# Altium schematic symbol library Connectors.SchLib: 84 symbols (part 1 of 3)
Pins are listed as number, name and electrical type; pins without a type are passive.

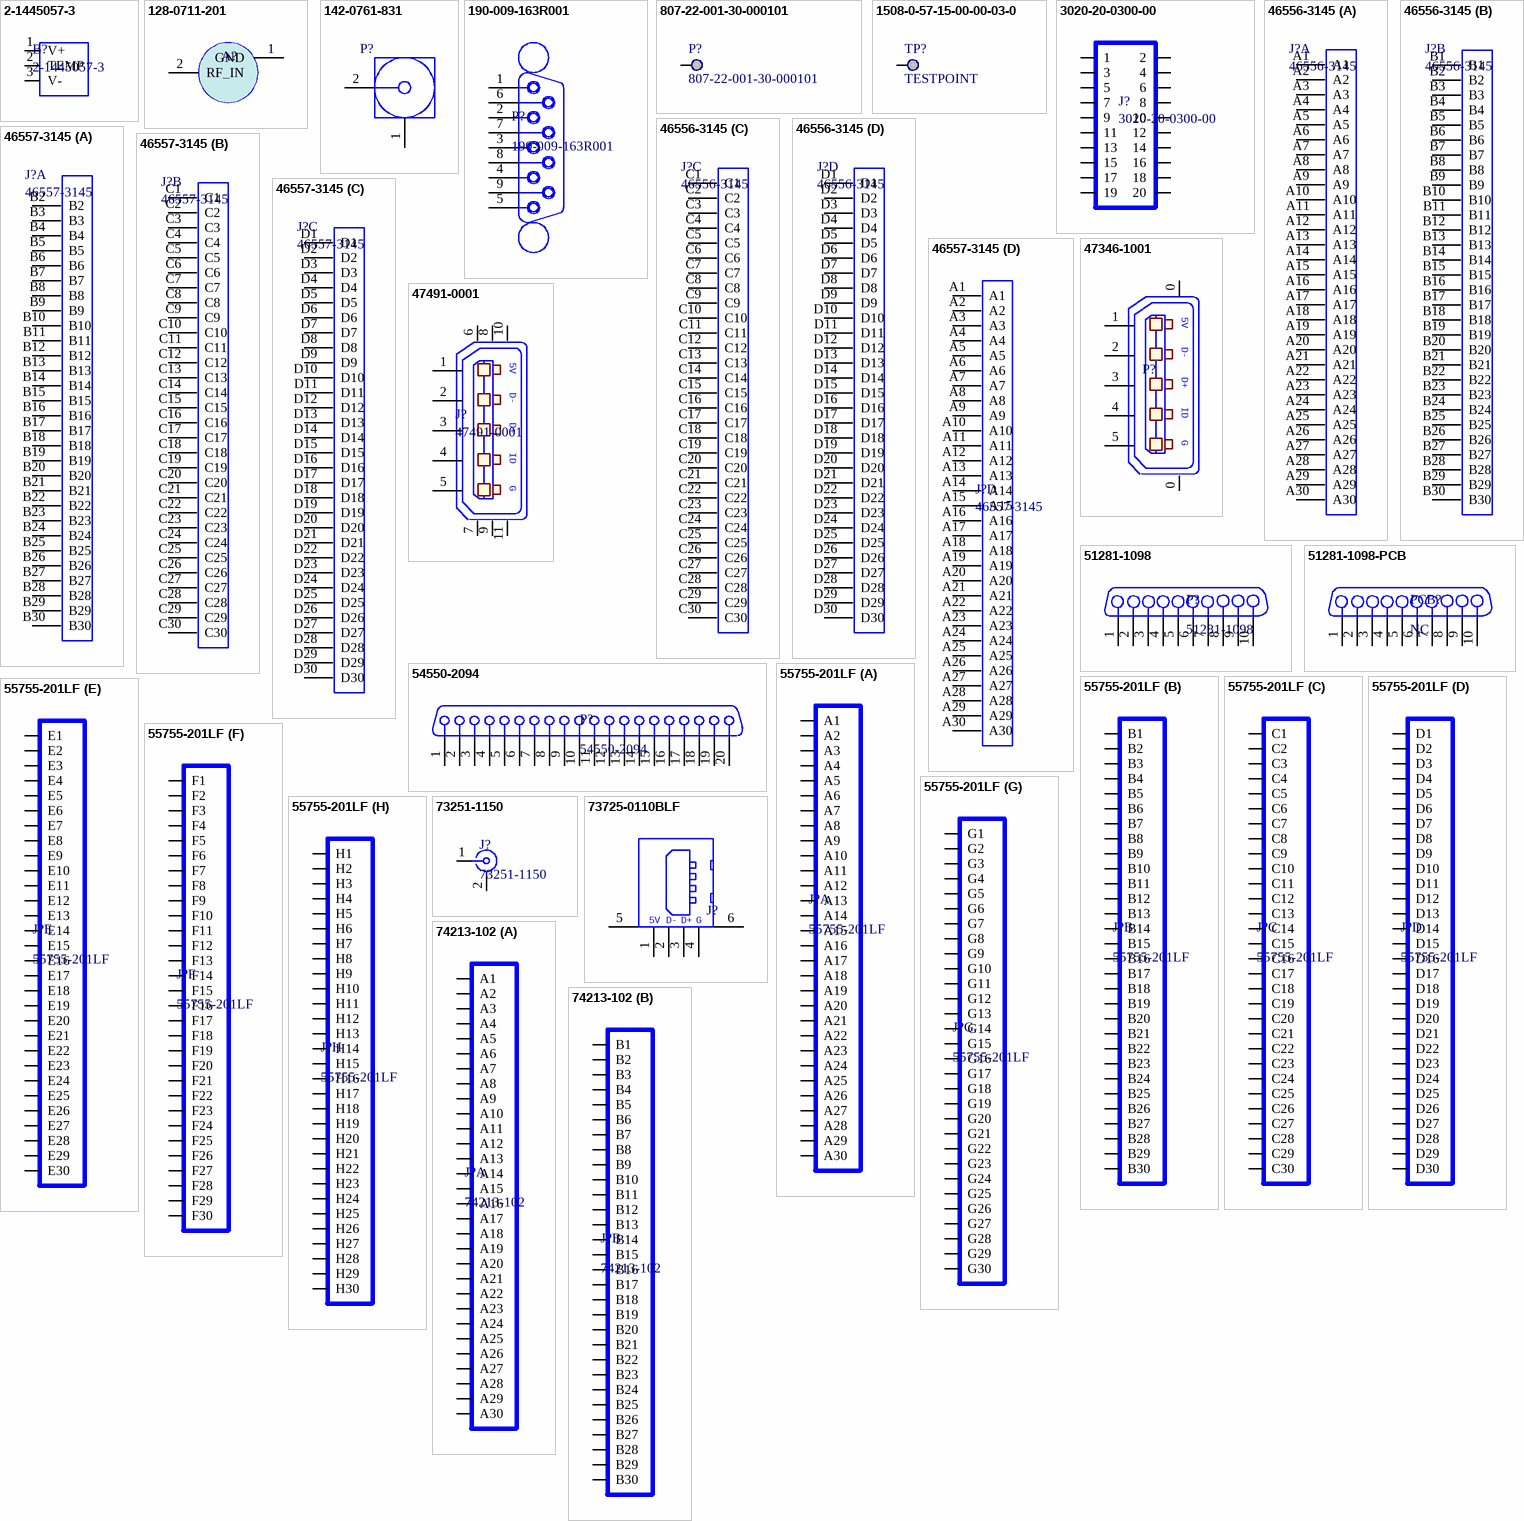
[diagram p0: symbols 2-1445057-3 to 74213-102]

## 2-1445057-3
designator B?
CONN HEADER 3MM 3POS R/A TIN SMD; Manufacturer: TE Connectivity AMP Connectors; Connector Type: Header, Shrouded; Number of Positions: 3; Number of Positions Loaded: All; Pitch: 0.118" (3.00mm); Supplier 1: Digi-Key; Manufacturer Part Number: 2-1445057-3; RoHS: RoHS Compliant; Category: Connectors, Interconnects; Stock 1: 2508; Pricing 1: 1=0.93, 10=0.741, 100=0.5276 (GBP); Packaging: Digi-Reel®; Part Status: Active; Contact Type: Male Pin; Number of Rows: 1; Row Spacing: -; Contact Mating Length: -; Mounting Type: Surface Mount, Right Angle; Termination: Solder; Fastening Type: Locking Ramp; Features: -; Contact Finish: Tin; Contact Finish Thickness: 100µin (2.54µm); Color: Black; ComponentLink1URL: http://www.te.com/commerce/DocumentDelivery/DDEController?Action=srchrtrv&DocNm=1445057&DocType=Customer+Drawing&DocLang=English; ComponentLink1Description: http://www.te.com/commerce/DocumentDelivery/DDEController?Action=srchrtrv&DocNm=1445057&DocType=Customer+Drawing&DocLang=English; Supplier Part Number 1: A33213DKR-ND
footprint 2-1445057-3 (3 Positions Header, Shrouded Connector 0.118" (3.00mm) Surface Mount, Right Angle Tin)
pins: 1 V+, 2 TEMP, 3 V-

## 128-0711-201
designator A?  (value not drawn)
CONN UMC RCPT STR 50 OHM SMD; Manufacturer: Emerson Network Power Connectivity Johnson; Temini: Kayra Elektronik; Connector Style: Ultra Miniature Coaxial; Connector Type: Receptacle, Male Pins; Contact Termination: Solder; Impedance: 50 Ohm; RoHS Status: RoHS Compliant; ComponentDescriptionLink: http://media.digikey.com/pdf/Data%20Sheets/Emerson%20PDFs/UMC%20Product%20Catalog.pdf; Category: Connectors, Interconnects; Family: Coaxial Connectors (RF); Shield Termination: Solder; Mounting Type: Surface Mount; Operating Temperature: -40°C ~ 90°C; Supplier 1: Digi-Key; Supplier Part Number 1: J983DKR-ND
footprint 128-0711-201 (IPEX MHF receptacle)
pins: 1 GND, 2 RF_IN

## 142-0761-831
designator P?  (value not drawn)
CONN JACK SMA 50 OHMS PC MOUNT; Manufacturer 1: Emerson Network Power Connectivity Solutions; Connector Type: Jack, Female Sockets; Contact Termination: Solder; Impedance: 50 Ohm; Frequency-Max: 26.5GHz; Supplier 1: Digi-Key; Supplier Part Number 1: J804-ND; RoHS: RoHS Compliant; Category: Connectors, Interconnects; Stock 1: 1034; Pricing 1: 1=8.45, 10=7.524, 50=6.142, 100=5.5278, 250=5.06716, 500=4.2994, 750=4.08443, 1000=3.83875, 2500=3.6852 (USD); Connector Style: SMA; Mounting Type: Board Edge; Fastening Type: Threaded; Cable Group: -; Features: -; Color: -; Packaging: Bulk; ComponentLink1URL: https://emersonconnectivity.com/OA_MEDIA/drawings/dr-142-0761-831.pdf; ComponentLink1Description: https://emersonconnectivity.com/OA_MEDIA/drawings/dr-142-0761-831.pdf; Manufacturer Part Number 1: 142-0761-831
footprint 142-0761-831 (Emerson Network Power Connectivity Solutions, CONN JACK SMA 50 OHMS PC MOUNT)
pins: 1 GND (power), 2 Signal "Signal Pin"

## 190-009-163R001
designator P?
CONN DSUB PLUG 9POS SMD R/A SLDR; Manufacturer: Norcomp Inc.; Connector Style: D-Sub; Connector Type: Plug, Male Pins; Number of Positions: 9; Flange Feature: Housing/Shell (4-40); Voltage Rating: 300V; Current Rating: 5A; Supplier 1: Digi-Key; Supplier Part Number 1: 190-09MA-ND; Manufacturer Part Number: 190-009-163R001; RoHS: RoHS Compliant; Category: Connectors, Interconnects; Stock 1: 8640; Pricing 1: 1=2.45, 10=2.352, 100=1.9596, 500=1.66566, 1000=1.42071, 5000=1.27374 (EUR); Packaging: Tube; Part Status: Active; Number of Rows: 2; Shell Size, Connector Layout: 1 (DE, E); Contact Type: Signal; Mounting Type: Board Edge, Surface Mount, Right Angle; Termination: Solder; Features: Board Guide, Board Lock, Grounding Indents, Shielded; Shell Material, Finish: Steel, Nickel Plated; Contact Finish: Gold; Contact Finish Thickness: Flash; Ingress Protection: -; Operating Temperature: -55°C ~ 105°C; Housing Material: Polyamide (PA6T), Nylon 6T; Color: Black; ComponentLink1URL: http://www.norcomp.net/rohspdfs/Connectors/19Y/190/190-009-163R001.pdf; ComponentLink1Description: http://www.norcomp.net/rohspdfs/Connectors/19Y/190/190-009-163R001.pdf
footprint 190-009-163R001 (9 Position D-Sub Plug, Male Pins Connector, Board Edge, Surface Mount, Right Angle Solder)
pins: 1, 2, 3, 4, 5, 6, 7, 8, 9

## 807-22-001-30-000101
designator P?
Circuit Board Hardware - PCB SMT INSL Spring Pins 2.54mm Height; Manufacturer: Mill-Max; Current Rating: 2A; Plating: Gold; Supplier: DigiKey; Supplier Part Number: ED1339-ND; Manufacturer Part Number: 807-22-001-30-000101; RoHS: Compliant; Category: Coaxial / RF Cable Assemblies; Stock: 929; Pricing: 1=1.08, 10=0.916, 25=0.858, 50=0.817, 100=0.778, 250=0.72924, 500=0.69438, 1000=0.66123, 2500=0.61984 (USD); Length: 2.54mm; Lifecycle Status: Production; Mounting Technology: Surface Mount; REACH SVHC: Yes; ComponentLink1URL: https://datasheet.octopart.com:443/807-22-001-30-000101-Mill-Max-datasheet-180693244.pdf?src-supplier=IHS; ComponentLink1Description: https://datasheet.octopart.com:443/807-22-001-30-000101-Mill-Max-datasheet-180693244.pdf?src-supplier=IHS; ComponentLink2URL: https://datasheet.octopart.com:443/807-22-001-30-000101-Mill-Max-datasheet-113190385.pdf?src-supplier=Upverter; ComponentLink2Description: https://datasheet.octopart.com:443/807-22-001-30-000101-Mill-Max-datasheet-113190385.pdf?src-supplier=Upverter; ComponentLink3URL: https://datasheet.octopart.com:443/807-22-001-30-000101-Mill-Max-datasheet-137329504.pdf?src-supplier=Sager+Electronics; ComponentLink3Description: https://datasheet.octopart.com:443/807-22-001-30-000101-Mill-Max-datasheet-137329504.pdf?src-supplier=Sager+Electronics; Supplier 1: DigiKey; Supplier Part Number 1: ED1339-ND
footprint 807-22-001-30-000101
pins: 1

## 1508-0-57-15-00-00-03-0
designator TP?, comment TESTPOINT
TESTPOINT PIN SMD; Manufacturer: Mill-Max Manufacturing Corp.; Manufacturer Part Number: 1508-0-57-15-00-00-03-0; Supplier 1: Digi-Key; RoHS: RoHS Compliant; Category: Test and Measurement; Stock 1: 32978; Pricing 1: 1=0.94, 10=0.658, 25=0.564, 50=0.5076, 100=0.4426, 250=0.376, 500=0.3572 (GBP); Packaging: Cut Tape (CT); Part Status: Active; Type: PC Test Point; Terminal: 0.018" (0.46mm) Brass, Gold Plated; Mounting Type: Surface Mount; Material: Brass Alloy; Color: -; ComponentLink1URL: http://www.mill-max.com/assets/pdfs/224.pdf; ComponentLink1Description: http://www.mill-max.com/assets/pdfs/224.pdf; Supplier Part Number 1: ED1088CT-ND
ibis Model Name (Model Description)
footprint 1508-0-57-15-00-00-03-0 (Test point, surface mount)
pins: 1

## 3020-20-0300-00
designator J?
IDC BOX HEADER .100" 20POS; Manufacturer: CNC Tech; Connector Type: Header, Shrouded; Number of Positions: 20; Number of Positions Loaded: All; Pitch: 0.100" (2.54mm); Supplier 1: Digi-Key; Manufacturer Part Number: 3020-20-0300-00; RoHS: RoHS Compliant; Category: Connectors, Interconnects; Stock 1: 6113; Pricing 1: 1=0.55, 10=0.516, 50=0.4126, 100=0.3953, 250=0.36096, 500=0.34376, 1000=0.2836, 2500=0.25782, 5000=0.24922 (GBP); Packaging: Tray; Part Status: Active; Contact Type: Male Pin; Number of Rows: 2; Row Spacing: 0.100" (2.54mm); Contact Mating Length: -; Mounting Type: Surface Mount; Termination: Solder; Fastening Type: -; Features: -; Contact Finish: Gold; Contact Finish Thickness: Flash; Color: -; ComponentLink1URL: http://cnctech.us/pdfs/3020-XX-0300-00.pdf; ComponentLink1Description: http://cnctech.us/pdfs/3020-XX-0300-00.pdf; Supplier Part Number 1: 1175-1623-ND
footprint 3020-20-0300-00
pins: 1, 2, 3, 4, 5, 6, 7, 8, 9, 10, 11, 12, 13, 14, 15, 16, 17, 18, 19, 20

## 46556-3145
designator J?
Terminal Array Assembly, Surface Mount, 0.050" Pitch, 120 Pins; Manufacturer: Molex Connector Corporation; Connector Type: High Density Array, Male; Number of Positions: 120; Pitch: 0.050" (1.27mm); Mated Stacking Heights: 7mm, 8mm, 8.5mm, 9.5mm, 10mm; Supplier 1: Digi-Key; Manufacturer Part Number: 46556-3145; RoHS: RoHS Compliant; Category: Connectors, Interconnects; Stock 1: 300; Pricing 1: 300=6.8804, 600=6.4365, 900=6.08138 (GBP); Packaging: Tape & Reel (TR); Part Status: Active; Number of Rows: 4; Mounting Type: Surface Mount; Features: Board Guide; Contact Finish: Gold; Contact Finish Thickness: 30µin (0.76µm); Height Above Board: 0.221" (5.63mm); ComponentLink1URL: http://www.molex.com/pdm_docs/sd/465563145_sd.pdf; ComponentLink1Description: http://www.molex.com/pdm_docs/sd/465563145_sd.pdf; Supplier Part Number 1: WM4977TR-ND
footprint 46556-3145 (SEARAY* Slim Plug, 120 Circuits, 2.00mm Unmated Height, 4 Rows, with Pegs, Solder Charge™ Lead-Free)
part A pins: A1, A2, A3, A4, A5, A6, A7, A8, A9, A10, A11, A12, A13, A14, A15, A16, A17, A18, A19, A20, A21, A22, A23, A24, A25, A26, A27, A28, A29, A30
part B pins: B1, B2, B3, B4, B5, B6, B7, B8, B9, B10, B11, B12, B13, B14, B15, B16, B17, B18, B19, B20, B21, B22, B23, B24, B25, B26, B27, B28, B29, B30
part C pins: C1, C2, C3, C4, C5, C6, C7, C8, C9, C10, C11, C12, C13, C14, C15, C16, C17, C18, C19, C20, C21, C22, C23, C24, C25, C26, C27, C28, C29, C30
part D pins: D1, D2, D3, D4, D5, D6, D7, D8, D9, D10, D11, D12, D13, D14, D15, D16, D17, D18, D19, D20, D21, D22, D23, D24, D25, D26, D27, D28, D29, D30

## 46557-3145
designator J?
Socket Array Assembly, Surface Mount, 0.050" Pitch, 120 pins.; Manufacturer: Molex, LLC; Manufacturer Part Number: 0465573145; Connector Type: High Density Array, Female; Number of Positions: 120; Pitch: 0.050" (1.27mm); Mated Stacking Heights: 7mm, 7.5mm, 8mm, 8.5mm, 9.5mm, 10mm, 12mm; Supplier 1: Digi-Key; RoHS: RoHS Compliant; Category: Connectors, Interconnects; Stock 1: 350; Pricing 1: 350=8.17771, 700=7.65011 (GBP); Packaging: Tape & Reel (TR); Part Status: Active; Number of Rows: 4; Mounting Type: Surface Mount; Features: Board Guide; Contact Finish: Gold; Contact Finish Thickness: 30µin (0.76µm); Height Above Board: 0.199" (5.05mm); ComponentLink1URL: http://www.molex.com/pdm_docs/sd/465573145_sd.pdf; ComponentLink1Description: http://www.molex.com/pdm_docs/sd/465573145_sd.pdf; Supplier Part Number 1: WM4981TR-ND
footprint 46557-3145 (SEARAY* Slim Receptacle, 120 Circuits, 5.00mm Unmated Height, 4 Rows, with Pegs, Solder Charge™ Lead-Free)
part A pins: B2, B3, B4, B5, B6, B7, B8, B9, B10, B11, B12, B13, B14, B15, B16, B17, B18, B19, B20, B21, B22, B23, B24, B25, B26, B27, B28, B29, B30
part B pins: C1, C2, C3, C4, C5, C6, C7, C8, C9, C10, C11, C12, C13, C14, C15, C16, C17, C18, C19, C20, C21, C22, C23, C24, C25, C26, C27, C28, C29, C30
part C pins: D1, D2, D3, D4, D5, D6, D7, D8, D9, D10, D11, D12, D13, D14, D15, D16, D17, D18, D19, D20, D21, D22, D23, D24, D25, D26, D27, D28, D29, D30
part D pins: A1, A2, A3, A4, A5, A6, A7, A8, A9, A10, A11, A12, A13, A14, A15, A16, A17, A18, A19, A20, A21, A22, A23, A24, A25, A26, A27, A28, A29, A30
1 alternate drawing of the same symbol

## 47346-1001
designator P?  (value not drawn)
USB Connectors uUSB B Rec BotMt Flangeless SMT; Manufacturer: Molex; Current Rating: 1.8 A; Gender: Female; Mounting Angle: Right; Number of Contacts: 5 Contact; Voltage Rating: 30 V; Insulator Color: Black; Number of Ports: 1 Port; Supplier 1: Mouser; Manufacturer Part Number: 47346-1001; RoHS: RoHS Compliant; Category: USB Connectors; Stock 1: 11316; Pricing 1: 1=0.688, 10=0.631, 100=0.540, 250=0.489, 500=0.451, 1000=0.389, 2000=0.389 (EUR); Color: Black; Contact Plating: Gold; Features: Micro-USB B Receptacle without Flange, Bottom Mount, Surface Mount, Lead-Free; Operating Temperature Range: - 30 C to + 85 C; Packaging: Reel; Product: Micro USB Type B Connectors; Series: 47346; Termination Style: SMD/SMT; Brand: Molex; Contact Material: Copper Alloy; Flammability Rating: UL 94 V-0; Shell Plating: Stainless Steel; Standard Pack Qty: 2000; RoHS - Mouser: Y; Minimum Order Quantity: 1; Reeling: True; ComponentLink1URL: http://www.mouser.com/ds/2/276/0473461001_IO_CONNECTORS-272892.pdf; ComponentLink1Description: http://www.mouser.com/ds/2/276/0473461001_IO_CONNECTORS-272892.pdf; Supplier Part Number 1: 538-47346-1001
footprint 47346-1001 (Micro-USB B Receptacle without Flange, Bottom Mount, Surface Mount, Lead-Free)
pins: 0, 0, 1 P1, 2 P2, 3 P3, 4 P4, 5 P5
text: 5V; D-; D+; ID; G

## 47491-0001
designator J?
CONN RCPT 5POS MICRO USB R/A; Manufacturer: Molex, LLC; Manufacturer Part Number: 0474910001; Connector Type: USB - micro B; Number of Contacts: 5; Gender: Receptacle; Supplier 1: Digi-Key; RoHS: RoHS Compliant; Category: Connectors, Interconnects; Stock 1: 5436; Pricing 1: 1=0.89, 10=0.785, 25=0.7384, 50=0.7076, 100=0.6769, 250=0.6154, 500=0.55384 (GBP); Packaging: Digi-Reel®; Part Status: Active; Specifications: -; Mounting Type: Board Cutout, Surface Mount, Right Angle; Features: Shielded; Ingress Protection: -; ComponentLink1URL: http://www.molex.com/pdm_docs/sd/474910001_sd.pdf; ComponentLink1Description: http://www.molex.com/pdm_docs/sd/474910001_sd.pdf; Supplier Part Number 1: WM17142DKR-ND
footprint 47491-0001
pins: 1 P1, 2 P2, 3 P3, 4 P4, 5 P5, 6, 7, 8, 9, 10, 11
text: 5V; D-; D+; ID; G

## 51281-1098
designator P?
FFC/FPC Connector, Surface Mount, Right-Angle, Non-ZIF, Dual Contact Style; Manufacturer: Molex; Supplier: Digikey; Supplier Part Number: 900-0512811098CT-ND; Manufacturer Part Number: 51281-1098; RoHS: No; Stock: 2876; Pricing: 1=0.7, 10=0.594, 25=0.5568, 50=0.53, 100=0.5047, 250=0.47304, 500=0.45042, 1000=0.42891 (USD); ComponentLink1URL: https://datasheet.octopart.com/51281-1098-Molex-datasheet-165827616.pdf?src-supplier=Farnell; ComponentLink1Description: https://datasheet.octopart.com/51281-1098-Molex-datasheet-165827616.pdf?src-supplier=Farnell; Supplier 1: Mouser; Supplier Part Number 1: 538-51281-1098; Supplier 2: Digikey; Supplier Part Number 2: 900-0512811098CT-ND; Supplier 3: Digikey; Supplier Part Number 3: 900-0512811098DKR-ND; System: Connector
footprint 51281-1098
pins: 1, 2, 3, 4, 5, 6, 7, 8, 9, 10

## 51281-1098-PCB
designator PCB?, comment NC
System: Connector
footprint 51281-1098-PCB
pins: 1, 2, 3, 4, 5, 6, 7, 8, 9, 10

## 54550-2094
designator P?
CONN FPC 20POS .5MM SMD R/A ZIF; Manufacturer: Molex Connector Corporation; Connector Type: Top Contacts; Number of Positions: 20; Pitch: 0.020" (0.50mm); FFC, FCB Thickness: 0.30mm; Cable End Type: Straight; Locking Feature: Slide Lock; Current Rating: 0.500A; Voltage Rating: 50V; Supplier 1: Digi-Key; Manufacturer Part Number: 54550-2094; RoHS: RoHS Compliant; Category: Connectors, Interconnects; Stock 1: 675; Pricing 1: 1=2.49, 10=2.063, 50=1.719, 100=1.5279, 250=1.33692, 500=1.22234, 1000=1.10774, 2500=0.99315, 5000=0.97405 (EUR); Height Above Board: 0.047" (1.20mm); Mounting Type: Surface Mount, Right Angle; Termination: Solder; Features: Solder Retention, Zero Insertion Force (ZIF); Packaging: Bulk; Contact Finish: Tin-Bismuth; Contact Finish Thickness: 8µin (0.20µm); Operating Temperature: -20°C ~ 85°C; Housing Material: Liquid Crystal Polymer (LCP); ComponentLink1URL: http://www.molex.com/pdm_docs/sd/545502094_sd.pdf; ComponentLink1Description: http://www.molex.com/pdm_docs/sd/545502094_sd.pdf; Supplier Part Number 1: WM1541-ND
pins: 1, 2, 3, 4, 5, 6, 7, 8, 9, 10, 11, 12, 13, 14, 15, 16, 17, 18, 19, 20

## 55755-201LF
designator J?
CONN ARRAY FEMALE 240POS SMD; Manufacturer: Amphenol FCI; Connector Type: Array, Female Sockets; Number of Positions: 240; Pitch: 0.050" (1.27mm); Mated Stacking Heights: 6mm; Supplier 1: Digi-Key; Manufacturer Part Number: 55755-201LF; RoHS: RoHS Compliant; Category: Connectors, Interconnects; Stock 1: 224; Pricing 1: 1=16.41, 10=15.24, 25=13.6768, 50=13.2862, 100=11.723 (GBP); Packaging: Digi-Reel®; Part Status: Active; Number of Rows: 8; Mounting Type: Surface Mount; Features: -; Contact Finish: Gold or Gold, GXT™; Contact Finish Thickness: 80µin (2.03µm); Height Above Board: 0.211" (5.35mm); ComponentLink1URL: http://portal.fciconnect.com/Comergent//fci/drawing/55755.pdf; ComponentLink1Description: http://portal.fciconnect.com/Comergent//fci/drawing/55755.pdf; Supplier Part Number 1: 609-4802-6-ND
footprint 55755-201LF (Amphenol FCI 55755-201LF, BGA, 240-Leads, Body 14.80x42.30mmx5.89mm, Pitch 1.27mm)
part A pins: A1, A2, A3, A4, A5, A6, A7, A8, A9, A10, A11, A12, A13, A14, A15, A16, A17, A18, A19, A20, A21, A22, A23, A24, A25, A26, A27, A28, A29, A30
part B pins: B1, B2, B3, B4, B5, B6, B7, B8, B9, B10, B11, B12, B13, B14, B15, B16, B17, B18, B19, B20, B21, B22, B23, B24, B25, B26, B27, B28, B29, B30
part C pins: C1, C2, C3, C4, C5, C6, C7, C8, C9, C10, C11, C12, C13, C14, C15, C16, C17, C18, C19, C20, C21, C22, C23, C24, C25, C26, C27, C28, C29, C30
part D pins: D1, D2, D3, D4, D5, D6, D7, D8, D9, D10, D11, D12, D13, D14, D15, D16, D17, D18, D19, D20, D21, D22, D23, D24, D25, D26, D27, D28, D29, D30
part E pins: E1, E2, E3, E4, E5, E6, E7, E8, E9, E10, E11, E12, E13, E14, E15, E16, E17, E18, E19, E20, E21, E22, E23, E24, E25, E26, E27, E28, E29, E30
part F pins: F1, F2, F3, F4, F5, F6, F7, F8, F9, F10, F11, F12, F13, F14, F15, F16, F17, F18, F19, F20, F21, F22, F23, F24, F25, F26, F27, F28, F29, F30
part G pins: G1, G2, G3, G4, G5, G6, G7, G8, G9, G10, G11, G12, G13, G14, G15, G16, G17, G18, G19, G20, G21, G22, G23, G24, G25, G26, G27, G28, G29, G30
part H pins: H1, H2, H3, H4, H5, H6, H7, H8, H9, H10, H11, H12, H13, H14, H15, H16, H17, H18, H19, H20, H21, H22, H23, H24, H25, H26, H27, H28, H29, H30

## 73251-1150
designator J?
50 Ohms, SMA Jack Receptacle, Edge Mount, .25µm Gold (Au) Plating, One Piece Per Bag; Manufacturer: Molex; Manufacturer Lifecycle Status: ACTIVE; Body Material: Brass; Connector Type: Coaxial, SMA; Contact Resistance: 3mΩ; Dielectric Material: PTFE; Frequency: 18GHz; Gender: Female; Impedance: 50Ω; Insertion Loss (dB): 0.04dB; Insulation Resistance: 5GΩ; Number of Contacts: 1; Polarity: Normal, Standard; Voltage Rating: 500V; Supplier: RS; Supplier Part Number: 2659409; Manufacturer Part Number: 73251-1150; RoHS: Compliant; Category: RF / Coaxial Connectors; Stock: 55; Pricing: 1=7.5 (EUR); Body Plating: Gold; Case/Package: SMA; China RoHS: Compliant; Contact Gender: Female; Contact Material: Gold, Nickel; Contact Plating: Gold; Country of Origin: TW; Export Control Classification Number (ECCN) Code: EAR99; Halogen Free: Low Halogen; Harmonized Tariff Schedule (HTS) Code: 8536.69.40.10; Introduction Date: 2013-06-14; Lead Free: Lead Free; Lifecycle Status: Production; Max Operating Temperature: 165°C; Min Operating Temperature: -65°C; Mounting Technology: Edge, PCB; Pins: 1; Number of Ports: 1; Orientation: Right Angle, Straight; Packaging: Bulk; Plating: Gold; Radiation Hardening: No; REACH SVHC: No; Schedule B: 8536694010, 8536694010|8536694010|8536694010|8536694010|8536694010|8536694010|8536694010|8536694010|8536694010|8536694010|8536694010|8536694010|8536694010|8536694010|8536694010|8536694010|8536694010|8536694010|8536694010|8536694010|8536694010|8536694010|8536694010|85; Shell Material: Brass; Termination: Solder; ComponentLink1URL: https://datasheet.octopart.com:443/732511151-Molex-datasheet-148288820.pdf?src-supplier=Molex; ComponentLink1Description: https://datasheet.octopart.com:443/732511151-Molex-datasheet-148288820.pdf?src-supplier=Molex; ComponentLink2URL: https://datasheet.octopart.com:443/73251-1150-Molex-datasheet-11537763.pdf?src-supplier=Molex; ComponentLink2Description: https://datasheet.octopart.com:443/73251-1150-Molex-datasheet-11537763.pdf?src-supplier=Molex; ComponentLink3URL: https://datasheet.octopart.com:443/73251-1150-Molex-datasheet-138898328.pdf?src-supplier=Upverter; ComponentLink3Description: https://datasheet.octopart.com:443/73251-1150-Molex-datasheet-138898328.pdf?src-supplier=Upverter; ComponentLink4URL: https://datasheet.octopart.com:443/0732511150-Molex-datasheet-138898327.pdf?src-supplier=Sager+Electronics; ComponentLink4Description: https://datasheet.octopart.com:443/0732511150-Molex-datasheet-138898327.pdf?src-supplier=Sager+Electronics; ComponentLink5URL: https://datasheet.octopart.com:443/73251-1150-Molex-datasheet-10380185.pdf?src-supplier=Sager+Electronics; ComponentLink5Description: https://datasheet.octopart.com:443/73251-1150-Molex-datasheet-10380185.pdf?src-supplier=Sager+Electronics; ComponentLink6URL: https://datasheet.octopart.com:443/73251-1150-Molex-datasheet-10408568.pdf?src-supplier=Newark; ComponentLink6Description: https://datasheet.octopart.com:443/73251-1150-Molex-datasheet-10408568.pdf?src-supplier=Newark; ComponentLink7URL: https://datasheet.octopart.com:443/73251-1150-Molex-datasheet-34442371.pdf?src-supplier=Newark; ComponentLink7Description: https://datasheet.octopart.com:443/73251-1150-Molex-datasheet-34442371.pdf?src-supplier=Newark; ComponentLink8URL: https://datasheet.octopart.com:443/73251-1150-Molex-datasheet-21209074.pdf?src-supplier=Newark; ComponentLink8Description: https://datasheet.octopart.com:443/73251-1150-Molex-datasheet-21209074.pdf?src-supplier=Newark; ComponentLink9URL: https://datasheet.octopart.com:443/73251-1150-Molex-datasheet-193130295.pdf?src-supplier=JRH+Electronics; ComponentLink9Description: https://datasheet.octopart.com:443/73251-1150-Molex-datasheet-193130295.pdf?src-supplier=JRH+Electronics; ComponentLink10URL: https://datasheet.octopart.com:443/73251-1150-Molex-datasheet-154758247.pdf?src-supplier=Master+Electronics; ComponentLink10Description: https://datasheet.octopart.com:443/73251-1150-Molex-datasheet-154758247.pdf?src-supplier=Master+Electronics; ComponentLink11URL: https://datasheet.octopart.com:443/73251-1150-Molex-datasheet-77558400.pdf?src-supplier=element14+APAC; ComponentLink11Description: https://datasheet.octopart.com:443/73251-1150-Molex-datasheet-77558400.pdf?src-supplier=element14+APAC; ComponentLink12URL: https://datasheet.octopart.com:443/73251-1150-Molex-datasheet-11517412.pdf?src-supplier=element14+APAC; ComponentLink12Description: https://datasheet.octopart.com:443/73251-1150-Molex-datasheet-11517412.pdf?src-supplier=element14+APAC; ComponentLink13URL: https://datasheet.octopart.com:443/73251-1151-Molex-datasheet-168217634.pdf?src-supplier=TME; ComponentLink13Description: https://datasheet.octopart.com:443/73251-1151-Molex-datasheet-168217634.pdf?src-supplier=TME; ComponentLink14URL: https://datasheet.octopart.com:443/73251-1150-Molex-datasheet-168217633.pdf?src-supplier=TME; ComponentLink14Description: https://datasheet.octopart.com:443/73251-1150-Molex-datasheet-168217633.pdf?src-supplier=TME; ComponentLink15URL: https://datasheet.octopart.com:443/73251-1150-Molex-datasheet-140187815.pdf?src-supplier=RS+(Formerly+Allied+Electronics); ComponentLink15Description: https://datasheet.octopart.com:443/73251-1150-Molex-datasheet-140187815.pdf?src-supplier=RS+(Formerly+Allied+Electronics); ComponentLink16URL: https://datasheet.octopart.com:443/73251-1150-Molex-datasheet-120156148.pdf?src-supplier=RS+(Formerly+Allied+Electronics); ComponentLink16Description: https://datasheet.octopart.com:443/73251-1150-Molex-datasheet-120156148.pdf?src-supplier=RS+(Formerly+Allied+Electronics); ComponentLink17URL: https://datasheet.octopart.com:443/73251-1150-Molex-datasheet-27888453.pdf?src-supplier=Electro+Sonic; ComponentLink17Description: https://datasheet.octopart.com:443/73251-1150-Molex-datasheet-27888453.pdf?src-supplier=Electro+Sonic; ComponentLink18URL: https://datasheet.octopart.com:443/73251-1150-Molex-datasheet-139506.pdf?src-supplier=DigiKey; ComponentLink18Description: https://datasheet.octopart.com:443/73251-1150-Molex-datasheet-139506.pdf?src-supplier=DigiKey; ComponentLink19URL: http://sigma.octopart.com:80/16440008/rohs_statement/Molex-73251-1150.pdf?src-supplier=Compliance+Statements; ComponentLink19Description: http://sigma.octopart.com:80/16440008/rohs_statement/Molex-73251-1150.pdf?src-supplier=Compliance+Statements; ComponentLink20URL: http://sigma.octopart.com:80/reach_statement/Molex-company-74.pdf?src-supplier=Compliance+Statements; ComponentLink20Description: http://sigma.octopart.com:80/reach_statement/Molex-company-74.pdf?src-supplier=Compliance+Statements; ComponentLink21URL: http://sigma.octopart.com:80/rohs_statement/Molex-company-73.pdf?src-supplier=Compliance+Statements; ComponentLink21Description: http://sigma.octopart.com:80/rohs_statement/Molex-company-73.pdf?src-supplier=Compliance+Statements; ComponentLink22URL: http://sigma.octopart.com:80/conflict_mineral_statement/Molex-company-72.pdf?src-supplier=Compliance+Statements; ComponentLink22Description: http://sigma.octopart.com:80/conflict_mineral_statement/Molex-company-72.pdf?src-supplier=Compliance+Statements
footprint CONN_73251-1150_MOL
pins: 1 In, 2 Ext

## 73725-0110BLF
designator J?  (value not drawn)
CONN RCPT USB TYPE A FLAG PCB; Manufacturer: Amphenol FCI; Connector Type: USB - A; Number of Contacts: 4; Gender: Receptacle; Specifications: USB 2.0; Supplier 1: Digi-Key; Manufacturer Part Number: 73725-0110BLF; RoHS: RoHS Compliant; Category: Connectors, Interconnects; Stock 1: 17426; Pricing 1: 1=0.63, 10=0.554, 50=0.5002, 100=0.4784, 250=0.43492, 500=0.39144, 1000=0.34794, 2500=0.31532, 5000=0.30445 (GBP); Packaging: Tube; Part Status: Active; Mounting Type: Through Hole, Right Angle, Vertical; Features: Board Lock, Shielded; Ingress Protection: -; ComponentLink1URL: http://portal.fciconnect.com/Comergent//fci/drawing/73725.pdf; ComponentLink1Description: http://portal.fciconnect.com/Comergent//fci/drawing/73725.pdf; Supplier Part Number 1: 609-1041-ND
footprint 73725-0110BLF (CONN RCPT USB TYPE A FLAG PCB)
pins: 1 VBUS, 2 D-, 3 D+, 4 GND, 5 SHIELD, 6 SHIELD
text: 5V; G

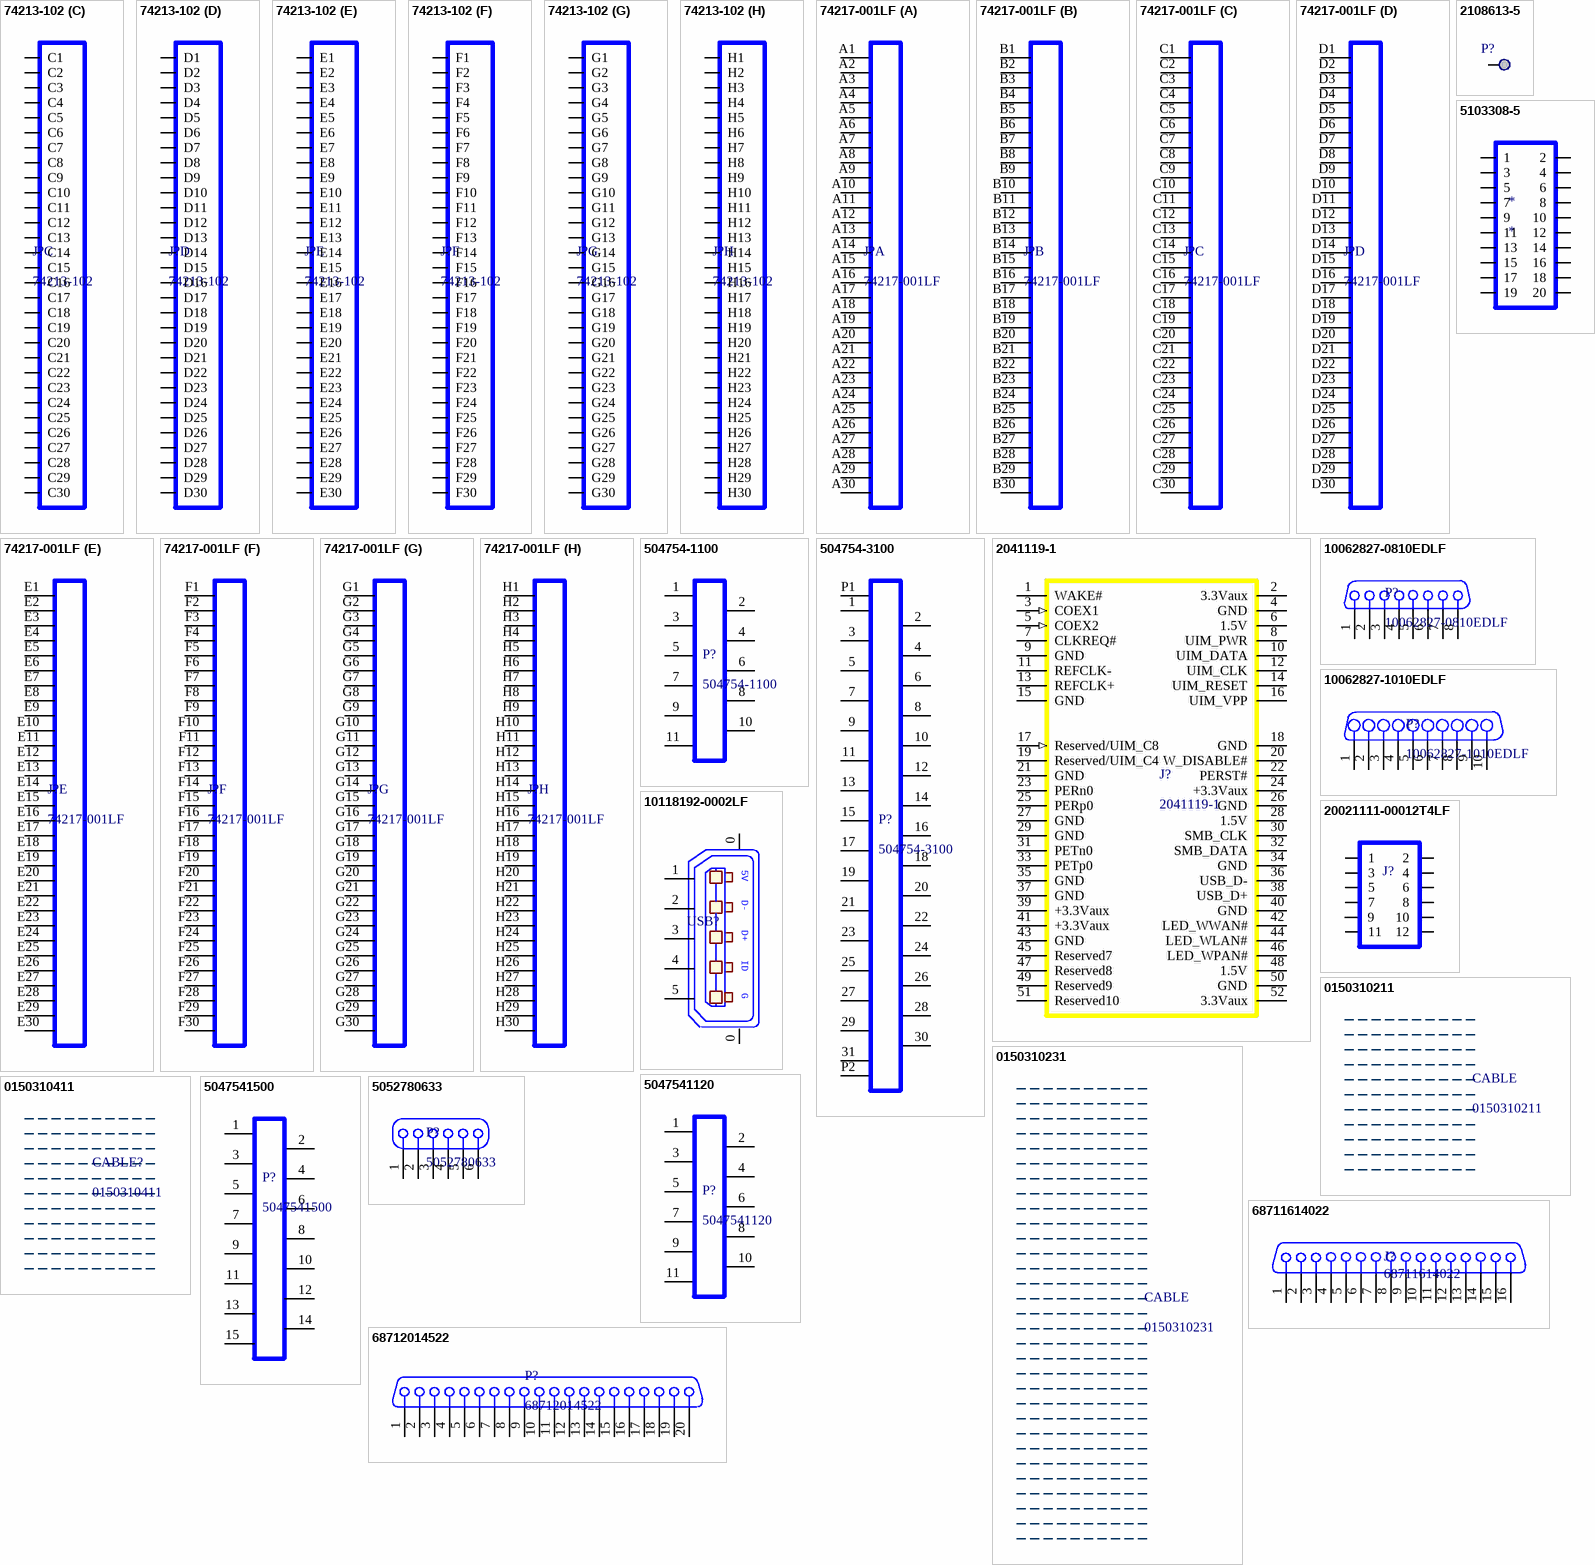
[diagram p1: symbols 74213-102 to 68712014522]

## 74213-102
designator J?
CONN ARRAY MALE 240POS SMD; Manufacturer: Amphenol FCI; Connector Type: Array, Male Pins; Number of Positions: 240; Pitch: 0.050" (1.27mm); Mated Stacking Heights: 3.4mm, 4mm; Supplier 1: Digi-Key; Manufacturer Part Number: 74213-102; RoHS: RoHS non-compliant; Category: Connectors, Interconnects; Stock 1: 109; Pricing 1: 1=15.11, 10=14.037, 25=12.5976, 50=12.2376, 100=10.798 (GBP); Packaging: Digi-Reel®; Part Status: Active; Number of Rows: 8; Mounting Type: Surface Mount; Features: -; Contact Finish: Gold; Contact Finish Thickness: 30µin (0.76µm); Height Above Board: 0.100" (2.54mm); ComponentLink1URL: http://portal.fciconnect.com/Comergent//fci/drawing/74213.pdf; ComponentLink1Description: http://portal.fciconnect.com/Comergent//fci/drawing/74213.pdf; Supplier Part Number 1: 609-4805-6-ND
footprint 74213-102 (Amphenol FCI 74213-102, BGA, 240-Leads, Body 14.80x42.30mmx5.89mm, Pitch 1.27mm)
part A pins: A1, A2, A3, A4, A5, A6, A7, A8, A9, A10, A11, A12, A13, A14, A15, A16, A17, A18, A19, A20, A21, A22, A23, A24, A25, A26, A27, A28, A29, A30
part B pins: B1, B2, B3, B4, B5, B6, B7, B8, B9, B10, B11, B12, B13, B14, B15, B16, B17, B18, B19, B20, B21, B22, B23, B24, B25, B26, B27, B28, B29, B30
part C pins: C1, C2, C3, C4, C5, C6, C7, C8, C9, C10, C11, C12, C13, C14, C15, C16, C17, C18, C19, C20, C21, C22, C23, C24, C25, C26, C27, C28, C29, C30
part D pins: D1, D2, D3, D4, D5, D6, D7, D8, D9, D10, D11, D12, D13, D14, D15, D16, D17, D18, D19, D20, D21, D22, D23, D24, D25, D26, D27, D28, D29, D30
part E pins: E1, E2, E3, E4, E5, E6, E7, E8, E9, E10, E11, E12, E13, E14, E15, E16, E17, E18, E19, E20, E21, E22, E23, E24, E25, E26, E27, E28, E29, E30
part F pins: F1, F2, F3, F4, F5, F6, F7, F8, F9, F10, F11, F12, F13, F14, F15, F16, F17, F18, F19, F20, F21, F22, F23, F24, F25, F26, F27, F28, F29, F30
part G pins: G1, G2, G3, G4, G5, G6, G7, G8, G9, G10, G11, G12, G13, G14, G15, G16, G17, G18, G19, G20, G21, G22, G23, G24, G25, G26, G27, G28, G29, G30
part H pins: H1, H2, H3, H4, H5, H6, H7, H8, H9, H10, H11, H12, H13, H14, H15, H16, H17, H18, H19, H20, H21, H22, H23, H24, H25, H26, H27, H28, H29, H30

## 74217-001LF
designator J?
CONN ARRAY FEMALE 240POS SMD; Manufacturer: Amphenol FCI; Connector Type: Array, Female Sockets; Number of Positions: 240; Pitch: 0.050" (1.27mm); Mated Stacking Heights: 4mm; Supplier 1: Digi-Key; Manufacturer Part Number: 74217-001LF; RoHS: RoHS Compliant; Category: Connectors, Interconnects; Stock 1: 282; Pricing 1: 1=15.45, 10=13.951, 25=13.3664, 50=12.5312, 100=12.1134 (GBP); Packaging: Cut Tape (CT); Part Status: Active; Number of Rows: 8; Mounting Type: Surface Mount; Features: -; Contact Finish: Gold; Contact Finish Thickness: 15µin (0.38µm); Height Above Board: 0.132" (3.35mm); ComponentLink1URL: http://portal.fciconnect.com/Comergent//fci/drawing/74217.pdf; ComponentLink1Description: http://portal.fciconnect.com/Comergent//fci/drawing/74217.pdf; Supplier Part Number 1: 609-4452-1-ND
footprint 74217-001LF (Amphenol FCI 74217-001LF, BGA, 240-Leads, Body 14.80x42.30mmx3.89mm, Pitch 1.27mm)
part A pins: A1, A2, A3, A4, A5, A6, A7, A8, A9, A10, A11, A12, A13, A14, A15, A16, A17, A18, A19, A20, A21, A22, A23, A24, A25, A26, A27, A28, A29, A30
part B pins: B1, B2, B3, B4, B5, B6, B7, B8, B9, B10, B11, B12, B13, B14, B15, B16, B17, B18, B19, B20, B21, B22, B23, B24, B25, B26, B27, B28, B29, B30
part C pins: C1, C2, C3, C4, C5, C6, C7, C8, C9, C10, C11, C12, C13, C14, C15, C16, C17, C18, C19, C20, C21, C22, C23, C24, C25, C26, C27, C28, C29, C30
part D pins: D1, D2, D3, D4, D5, D6, D7, D8, D9, D10, D11, D12, D13, D14, D15, D16, D17, D18, D19, D20, D21, D22, D23, D24, D25, D26, D27, D28, D29, D30
part E pins: E1, E2, E3, E4, E5, E6, E7, E8, E9, E10, E11, E12, E13, E14, E15, E16, E17, E18, E19, E20, E21, E22, E23, E24, E25, E26, E27, E28, E29, E30
part F pins: F1, F2, F3, F4, F5, F6, F7, F8, F9, F10, F11, F12, F13, F14, F15, F16, F17, F18, F19, F20, F21, F22, F23, F24, F25, F26, F27, F28, F29, F30
part G pins: G1, G2, G3, G4, G5, G6, G7, G8, G9, G10, G11, G12, G13, G14, G15, G16, G17, G18, G19, G20, G21, G22, G23, G24, G25, G26, G27, G28, G29, G30
part H pins: H1, H2, H3, H4, H5, H6, H7, H8, H9, H10, H11, H12, H13, H14, H15, H16, H17, H18, H19, H20, H21, H22, H23, H24, H25, H26, H27, H28, H29, H30

## 504754-1100
designator P?
Conn FFC/FPC Connector SKT 11 POS 0.3mm Solder RA SMD Easy-On™ T/R; Manufacturer: Molex; CHECKED: FALSE; Supplier: Mouser; Supplier Part Number: 538-504754-1100; Manufacturer Part Number: 504754-1100; RoHS: No; Stock: 6459; Pricing: 1=0.77, 10=0.628, 50=0.544, 100=0.512, 1000=0.426, 10000=0.355 (USD); ComponentLink1URL: https://datasheet.octopart.com/504754-1100-Molex-datasheet-169278456.pdf?src-supplier=Farnell; ComponentLink1Description: https://datasheet.octopart.com/504754-1100-Molex-datasheet-169278456.pdf?src-supplier=Farnell; ComponentLink2URL: http://datasheet.octopart.com/5047541100-Molex-datasheet-38188796.pdf?src-supplier=Onlinecomponents.com; ComponentLink2Description: http://datasheet.octopart.com/5047541100-Molex-datasheet-38188796.pdf?src-supplier=Onlinecomponents.com; ComponentLink3URL: http://datasheet.octopart.com/5047541100-Molex-datasheet-38188796.pdf?src-supplier=Verical; ComponentLink3Description: http://datasheet.octopart.com/5047541100-Molex-datasheet-38188796.pdf?src-supplier=Verical; ComponentLink4URL: http://datasheet.octopart.com/5047541100-Molex-datasheet-38188796.pdf?src-supplier=Avnet; ComponentLink4Description: http://datasheet.octopart.com/5047541100-Molex-datasheet-38188796.pdf?src-supplier=Avnet; ComponentLink5URL: http://datasheet.octopart.com/5047541100-Molex-datasheet-38188796.pdf?src-supplier=TTI; ComponentLink5Description: http://datasheet.octopart.com/5047541100-Molex-datasheet-38188796.pdf?src-supplier=TTI; ComponentLink6URL: http://datasheet.octopart.com/5047541100-Molex-datasheet-38188796.pdf?src-supplier=Electro+Sonic; ComponentLink6Description: http://datasheet.octopart.com/5047541100-Molex-datasheet-38188796.pdf?src-supplier=Electro+Sonic; ComponentLink7URL: https://datasheet.octopart.com/504754-1100-Molex-datasheet-154754160.pdf?src-supplier=Master+Electronics; ComponentLink7Description: https://datasheet.octopart.com/504754-1100-Molex-datasheet-154754160.pdf?src-supplier=Master+Electronics; Supplier 1: Mouser; Supplier Part Number 1: 538-504754-1100
footprint 5047541100
pins: 1, 2, 3, 4, 5, 6, 7, 8, 9, 10, 11

## 504754-3100
designator P?
CUT TAPE - 0.3FPC B/F Hsg Assy W/Lck 31CktEmbsTpPkg; Manufacturer: Molex; Supplier: Mouser; Supplier Part Number: 538-504754-3100; Manufacturer Part Number: 504754-3100; RoHS: Yes; Category: FFC / FPC; Stock: 5000; Pricing: 1=1,59, 10=1,36, 50=1,36, 100=1,12, 1000=0,885, 10000=0,704 (USD); ComponentLink1URL: https://www.molex.com/pdm_docs/sd/5047543100_sd.pdf?src-supplier=Digi-Key; ComponentLink1Description: https://www.molex.com/pdm_docs/sd/5047543100_sd.pdf?src-supplier=Digi-Key; Supplier 1: Mouser; Supplier Part Number 1: 538-504754-3100
footprint 5047543100
pins: 1, 2, 3, 4, 5, 6, 7, 8, 9, 10, 11, 12, 13, 14, 15, 16, 17, 18, 19, 20, 21, 22, 23, 24, 25, 26, 27, 28, 29, 30, 31, P1, P2

## 2041119-1
designator J?
CONN MINI PCI EXPRESS CARD R/A S; Manufacturer: TE Connectivity AMP Connectors; Card Type: PCI Express Mini Card; Gender: Female; Number of Positions: 52; Card Thickness: 0.039" (1.00mm); Pitch: 0.031" (0.80mm); Material - Insulation: Liquid Crystal Polymer (LCP), Glass Filled; Read Out: Dual; Supplier 1: Digi-Key; Supplier Part Number 1: A108265DKR-ND; Manufacturer Part Number: 2041119-1; RoHS: RoHS Compliant; Category: Connectors, Interconnects; Stock 1: 13480; Pricing 1: 1=0.65, 10=0.612, 100=0.5869 (EUR); Packaging: Digi-Reel®; Part Status: Active; Number of Positions/Bay/Row: -; Number of Rows: 2; Features: Board Guide; Mounting Type: Surface Mount, Right Angle; Termination: Solder; Contact Material: Phosphor Bronze; Contact Finish: Gold; Contact Finish Thickness: Flash; Contact Type: -; Color: Black; Flange Feature: -; Operating Temperature: -; ComponentLink1URL: http://www.te.com/commerce/DocumentDelivery/DDEController?Action=srchrtrv&DocNm=2041119&DocType=Customer+Drawing&DocLang=English; ComponentLink1Description: http://www.te.com/commerce/DocumentDelivery/DDEController?Action=srchrtrv&DocNm=2041119&DocType=Customer+Drawing&DocLang=English
footprint 2041119-1 (CONN MINI PCI EXPRESS CARD R/A S)
pins: 1 WAKE#, 2 3.3Vaux, 3 COEX1 (in), 4 GND, 5 COEX2 (in), 6 1.5V, 7 CLKREQ#, 8 UIM_PWR, 9 GND, 10 UIM_DATA, 11 REFCLK-, 12 UIM_CLK, 13 REFCLK+, 14 UIM_RESET, 15 GND, 16 UIM_VPP, 17 Reserved/UIM_C8 (in), 18 GND, 19 Reserved/UIM_C4, 20 W_DISABLE#, 21 GND, 22 PERST#, 23 PERn0, 24 +3.3Vaux, 25 PERp0, 26 GND, 27 GND, 28 1.5V, 29 GND, 30 SMB_CLK, 31 PETn0, 32 SMB_DATA, 33 PETp0, 34 GND, 35 GND, 36 USB_D-, 37 GND, 38 USB_D+, 39 +3.3Vaux, 40 GND, 41 +3.3Vaux, 42 LED_WWAN#, 43 GND, 44 LED_WLAN#, 45 Reserved7, 46 LED_WPAN#, 47 Reserved8, 48 1.5V, 49 Reserved9, 50 GND, 51 Reserved10, 52 3.3Vaux

## 2108613-5
designator P?  (value not drawn)
TE CONNECTIVITY         2108613-5            SPRING FINGER, 2.4H, MOBILE/SMART PHONE; Current Rating: 500mA; Preloaded: Yes; Supplier 1: Digi-Key; Supplier Part Number 1: A118889CT-ND; Manufacturer: TE Connectivity; Manufacturer Part Number: 2108613-5; Stock 1: 3553; Pricing 1: 1=0.41, 10=0.392, 25=0.3356, 50=0.2852, 100=0.2741, 250=0.24608, 500=0.2349, 1000=0.19576, 2500=0.17898 (USD); Contact Plating: Gold; Packaging: Tape and Reel; Package Quantity: 6000; Width: 1mm; Radiation Hardening: No; REACH SVHC: Unknown; Lead Free: Lead Free; ELV: Compliant; ComponentLink1URL: http://www.farnell.com/datasheets/1820888.pdf; ComponentLink1Description: http://www.farnell.com/datasheets/1820888.pdf; ComponentLink2URL: http://www.te.com/usa-en/product-2108613-5.html; ComponentLink2Description: http://www.te.com/usa-en/product-2108613-5.html; ComponentLink3URL: http://www.te.com/commerce/DocumentDelivery/DDEController?Action=srchrtrv&DocNm=1-1773455-7_MOBILE_DEVICES_QRG&DocType=DS&DocLang=EN; ComponentLink3Description: http://www.te.com/commerce/DocumentDelivery/DDEController?Action=srchrtrv&DocNm=1-1773455-7_MOBILE_DEVICES_QRG&DocType=DS&DocLang=EN
footprint 2108613-5
pins: 1

## 5103308-5
designator *
Header; Pin; Vertical; Copper Alloy; Thermoplastic; 20; 0.100 x 0.100 in.; 1 A; Manufacturer: AMP - TE CONNECTIVITY; Manufacturer Part Number: 5103308-5; Supplier 1: Digi-Key; Supplier Part Number 1: A33165-ND; RoHS: No; Category: Headers and Wire Housings; Stock 1: 6694; Pricing 1: 1=2.15000, 10=1.94800, 100=1.66990, 500=1.39158, 1000=1.19279, 5000=1.05760, 10000=1.03375 (USD); ComponentLink1URL: http://catalog.tycoelectronics.com/TE/bin/TE.Connect?C=1&M=BYPN&TCPN=5103308-5&RQPN=5103308-5&src-supplier=Farnell; ComponentLink1Description: http://catalog.tycoelectronics.com/TE/bin/TE.Connect?C=1&M=BYPN&TCPN=5103308-5&RQPN=5103308-5&src-supplier=Farnell; ComponentLink2URL: http://catalog.tycoelectronics.com/TE/bin/TE.Connect?C=1&M=BYPN&TCPN=5103308-5&RQPN=5103308-5&src-supplier=Newark; ComponentLink2Description: http://catalog.tycoelectronics.com/TE/bin/TE.Connect?C=1&M=BYPN&TCPN=5103308-5&RQPN=5103308-5&src-supplier=Newark; ComponentLink3URL: https://www.te.com/commerce/DocumentDelivery/DDEController?Action=srchrtrv&DocNm=5103308&DocType=Customer+Drawing&DocLang=English&src-supplier=Digi-Key; ComponentLink3Description: https://www.te.com/commerce/DocumentDelivery/DDEController?Action=srchrtrv&DocNm=5103308&DocType=Customer+Drawing&DocLang=English&src-supplier=Digi-Key
footprint TE_5103308-5
pins: 1, 2, 3, 4, 5, 6, 7, 8, 9, 10, 11, 12, 13, 14, 15, 16, 17, 18, 19, 20

## 10062827-0810EDLF
designator P?
Conn FPC Connector SKT 8 POS 0.5mm Solder RA SMD Embossed T/R; Manufacturer: Amphenol FCI; Actuator Material: Glass,Thermoplastic; Contact Resistance: 30mR; Voltage Rating: 50V; Current Rating: 400mA; Number of Positions: 8; Contact Location: Bottom; Insulation Resistance: 100MR; Supplier 1: Digi-Key; Manufacturer Part Number: 10062827-0810EDLF; RoHS: Yes; Category: FFC / FPC; Stock 1: 13812; Pricing 1: 1=0.40000, 10=0.37900, 25=0.32480, 50=0.27600, 100=0.26510, 250=0.23804, 500=0.22722, 1000=0.18935, 2500=0.17312 (USD); Mount: Surface Mount; Contact Material: Copper Alloy; Contact Plating: Gold; Housing Color: Black; Housing Material: Thermoplastic; Min Operating Temperature: -55°C; Max Operating Temperature: 85°C; Packaging: Tape and Reel; Package Quantity: 6000; Number of Rows: 1; Orientation: Right Angle; Termination: Solder; Max Voltage Rating (AC): 50V; Number of Contacts: 8; Max Voltage Rating (DC): 50V; Length: 5.5mm; Pitch: 0.5mm; Depth: 3.4mm; Radiation Hardening: No; Flammability Rating: UL94 V-0; ComponentLink1URL: https://datasheet.ciiva.com/10369/10062827-10369237.pdf?src-supplier=Avnet; ComponentLink1Description: https://datasheet.ciiva.com/10369/10062827-10369237.pdf?src-supplier=Avnet; ComponentLink2URL: https://datasheet.ciiva.com/29949/10062827-29949263.pdf?src-supplier=Avnet; ComponentLink2Description: https://datasheet.ciiva.com/29949/10062827-29949263.pdf?src-supplier=Avnet; Supplier Part Number 1: 609-6434-1-ND
footprint 10062827-0810EDLF (CONN FPC BOTTOM 8POS 0.50MM R/A)
pins: 1, 2, 3, 4, 5, 6, 7, 8

## 10062827-1010EDLF
designator P?
Conn FPC Connector SKT 10 POS 0.5mm Solder RA SMD Embossed T/R; Manufacturer: Amphenol FCI; Actuator Material: Glass,Thermoplastic; Voltage Rating: 50V; Current Rating: 400mA; Contact Resistance: 30mR; Number of Positions: 10; Contact Location: Bottom; Insulation Resistance: 100MR; Supplier 1: Digi-Key; Supplier Part Number 1: 609-6435-1-ND; Manufacturer Part Number: 10062827-1010EDLF; RoHS: Yes; Category: FFC / FPC; Stock 1: 4208; Pricing 1: 1=0.47000, 10=0.44100, 25=0.37760, 50=0.32100, 100=0.30850, 250=0.27700, 500=0.26440, 1000=0.22033, 2500=0.20144 (USD); Mount: Surface Mount; Contact Material: Copper Alloy; Housing Color: Black; Contact Plating: Gold; Housing Material: Thermoplastic; Min Operating Temperature: -55°C; Max Operating Temperature: 85°C; Packaging: Tape and Reel; Number of Rows: 1; Orientation: Right Angle; Package Quantity: 6000; Termination: Solder; Number of Contacts: 10; Max Voltage Rating (AC): 50V; Length: 6.5mm; Pitch: 0.5mm; Depth: 3.4mm; Radiation Hardening: No; Flammability Rating: UL94 V-0; ComponentLink1URL: https://datasheet.ciiva.com/5136/gs-12-564-79527-5136610.pdf?src-supplier=Mouser; ComponentLink1Description: https://datasheet.ciiva.com/5136/gs-12-564-79527-5136610.pdf?src-supplier=Mouser
footprint 10062827-1010EDLF (CONN FPC BOTTOM 10POS 0.50MM R/A)
pins: 1, 2, 3, 4, 5, 6, 7, 8, 9, 10

## 10118192-0002LF
designator USB?  (value not drawn)
10118192-0002LF-MICRO USB B-TYPE, Tap/Rl ;RoHS Compliant: Yes; Manufacturer: Amphenol FCI; Supplier 1: Digi-Key; Supplier Part Number 1: 609-5379-2-ND; Manufacturer Part Number: 10118192-0002LF; Number of Pins: 4
footprint 10118192-0002LF
pins: 0, 0, 1 P1, 2 P2, 3 P3, 4 P4, 5 P5
text: 5V; D-; D+; ID; G

## 20021111-00012T4LF
designator J?  (value not drawn)
CONN HEADER 12POS UNSHD VERT T/H; Manufacturer: Amphenol FCI; Pitch - Mating: 0.050" (1.27mm); Number of Positions: 12; Number of Positions Loaded: All; Style: Board to Board; Shrouding: Unshrouded; Contact Length - Mating: 0.120" (3.05mm); Contact Length - Post: 0.091" (2.30mm); Overall Contact Length: 0.309" (7.86mm); Material Flammability Rating: UL94 V-0; Supplier 1: Digi-Key; Manufacturer Part Number: 20021111-00012T4LF; RoHS: RoHS Compliant; Category: Connectors, Interconnects; Stock: 3184; Pricing: 1=0.73, 10=0.645, 100=0.5564, 500=0.45522, 1000=0.40464, 5000=0.35406, 10000=0.33636 (USD); Packaging: Tube; Part Status: Active; Connector Type: Header; Contact Type: Male Pin; Number of Rows: 2; Row Spacing - Mating: 0.050" (1.27mm); Mounting Type: Through Hole; Termination: Solder; Fastening Type: Push-Pull; Insulation Height: 0.098" (2.50mm); Contact Shape: Square; Contact Finish - Mating: Gold; Contact Finish Thickness - Mating: 10.0µin (0.25µm); Contact Finish - Post: Tin; Contact Material: Copper Alloy; Insulation Material: Thermoplastic; Features: -; Operating Temperature: -; Ingress Protection: -; Insulation Color: Black; Current Rating: -; Voltage Rating: -; Mated Stacking Heights: -; Contact Finish Thickness - Post: 50.0µin (1.27µm); Applications: -; ComponentLink1URL: https://cdn.amphenol-icc.com/media/wysiwyg/files/drawing/20021111.pdf; ComponentLink1Description: https://cdn.amphenol-icc.com/media/wysiwyg/files/drawing/20021111.pdf; Supplier Part Number 1: 609-3713-ND
footprint 20021111-00012T4LF
pins: 1, 2, 3, 4, 5, 6, 7, 8, 9, 10, 11, 12

## 0150310211
designator CABLE
Cross Referenced to MOLEX - Part MOL15031-0211; Supplier: Digikey; Supplier Part Number: 900-0150310211-ND; Manufacturer: Molex; Manufacturer Part Number: 0150310211; RoHS: No; Category: Uncategorized; Pricing: 1=1.61, 10=1.369, 100=1.131, 1000=0.89293, 3000=0.8334 (USD); Supplier 1: Mouser; Supplier Part Number 1: 538-15031-0211; Supplier 2: Digikey; Supplier Part Number 2: 900-0150310211-ND

## 0150310231
designator CABLE
0.30mm Pitch Premo-Flex FPC Jumper with Notches, Same Side Contacts (Type A), 51.00mm Cable Length, Gold (Au) Plating, 31 Circuits; Manufacturer: Molex; Supplier: Digikey; Supplier Part Number: 900-0150310231-ND; Manufacturer Part Number: 0150310231; RoHS: No; Stock: 378; Pricing: 1=1.93, 10=1.698, 100=1.359 (USD); Supplier 1: Digikey; Supplier Part Number 1: 900-0150310231-ND

## 0150310411
designator CABLE?
0.30mm Pitch Premo-Flex FPC Jumper with Notches, Same Side Contacts (Type A), 102.00mm Cable Length, Gold (Au) Plating, 11 Circuits; Manufacturer: Molex; Supplier: Mouser; Supplier Part Number: 538-15031-0411; Manufacturer Part Number: 0150310411; RoHS: No; Stock: 373; Pricing: 1=2.72, 10=2.23, 50=1.99, 100=1.89, 1000=1.69, 10000=1.69 (USD); Supplier 1: Mouser; Supplier Part Number 1: 538-15031-0411; Supplier 2: Farnell; Supplier Part Number 2: 4043858

## 5047541120
designator P?
Conn FPC Connector SKT 11 POS 0.3mm Solder RA SMD Easy-On™ T/R; Manufacturer: Molex; Supplier: Digikey; Supplier Part Number: 900-5047541120CT-ND; Manufacturer Part Number: 5047541120; RoHS: Yes; Category: FFC / FPC; Stock: 4656; Pricing: 1=0.92, 10=0.759, 100=0.6325, 1000=0.50597, 2500=0.45854 (USD); ComponentLink1URL: http://datasheet.octopart.com/5047541120-Molex-datasheet-38188798.pdf?src-supplier=Newark; ComponentLink1Description: http://datasheet.octopart.com/5047541120-Molex-datasheet-38188798.pdf?src-supplier=Newark; ComponentLink2URL: http://datasheet.octopart.com/5047541120-Molex-datasheet-38188798.pdf?src-supplier=Avnet; ComponentLink2Description: http://datasheet.octopart.com/5047541120-Molex-datasheet-38188798.pdf?src-supplier=Avnet; ComponentLink3URL: http://datasheet.octopart.com/5047541120-Molex-datasheet-38188798.pdf?src-supplier=Digikey; ComponentLink3Description: http://datasheet.octopart.com/5047541120-Molex-datasheet-38188798.pdf?src-supplier=Digikey; ComponentLink4URL: http://datasheet.octopart.com/5047541120-Molex-datasheet-38188798.pdf?src-supplier=Onlinecomponents.com; ComponentLink4Description: http://datasheet.octopart.com/5047541120-Molex-datasheet-38188798.pdf?src-supplier=Onlinecomponents.com; ComponentLink5URL: http://datasheet.octopart.com/5047541120-Molex-datasheet-38188798.pdf?src-supplier=Verical; ComponentLink5Description: http://datasheet.octopart.com/5047541120-Molex-datasheet-38188798.pdf?src-supplier=Verical; ComponentLink6URL: http://datasheet.octopart.com/5047541120-Molex-datasheet-38188798.pdf?src-supplier=Heilind+Electronics; ComponentLink6Description: http://datasheet.octopart.com/5047541120-Molex-datasheet-38188798.pdf?src-supplier=Heilind+Electronics; ComponentLink7URL: https://datasheet.octopart.com/504754-1120-Molex-datasheet-154839704.pdf?src-supplier=Master+Electronics; ComponentLink7Description: https://datasheet.octopart.com/504754-1120-Molex-datasheet-154839704.pdf?src-supplier=Master+Electronics; ComponentLink8URL: http://datasheet.octopart.com/5047541120-Molex-datasheet-38188798.pdf?src-supplier=Electro+Sonic; ComponentLink8Description: http://datasheet.octopart.com/5047541120-Molex-datasheet-38188798.pdf?src-supplier=Electro+Sonic; Supplier 1: Digikey; Supplier Part Number 1: 900-5047541120CT-ND
footprint 5047541120
pins: 1, 2, 3, 4, 5, 6, 7, 8, 9, 10, 11

## 5047541500
designator P?
Conn FPC Connector SKT 15 POS 0.3mm Solder RA SMD Easy-On™ T/R; Manufacturer: Molex; Manufacturer Part Number: 504754-1500; Supplier: Digikey; Supplier Part Number: 900-5047541500CT-ND; RoHS: No; Category: FFC / FPC; Stock: 4037; Pricing: 1=1.02, 10=0.764, 25=0.6864, 50=0.6356, 100=0.5905, 250=0.53892, 500=0.50522, 1000=0.47548, 2500=0.44154 (USD); ComponentLink1URL: http://datasheet.octopart.com/5047541500-Molex-datasheet-148170207.pdf?src-supplier=Farnell; ComponentLink1Description: http://datasheet.octopart.com/5047541500-Molex-datasheet-148170207.pdf?src-supplier=Farnell; ComponentLink2URL: http://datasheet.octopart.com/5047541500-Molex-datasheet-148170207.pdf?src-supplier=Avnet; ComponentLink2Description: http://datasheet.octopart.com/5047541500-Molex-datasheet-148170207.pdf?src-supplier=Avnet; ComponentLink3URL: http://datasheet.octopart.com/5047541500-Molex-datasheet-148170207.pdf?src-supplier=Digikey; ComponentLink3Description: http://datasheet.octopart.com/5047541500-Molex-datasheet-148170207.pdf?src-supplier=Digikey; ComponentLink4URL: http://datasheet.octopart.com/5047541500-Molex-datasheet-148170207.pdf?src-supplier=Verical; ComponentLink4Description: http://datasheet.octopart.com/5047541500-Molex-datasheet-148170207.pdf?src-supplier=Verical; ComponentLink5URL: http://datasheet.octopart.com/5047541500-Molex-datasheet-148170207.pdf?src-supplier=Newark; ComponentLink5Description: http://datasheet.octopart.com/5047541500-Molex-datasheet-148170207.pdf?src-supplier=Newark; ComponentLink6URL: http://datasheet.octopart.com/5047541500-Molex-datasheet-148170207.pdf?src-supplier=Onlinecomponents.com; ComponentLink6Description: http://datasheet.octopart.com/5047541500-Molex-datasheet-148170207.pdf?src-supplier=Onlinecomponents.com; ComponentLink7URL: http://datasheet.octopart.com/5047541500-Molex-datasheet-148170207.pdf?src-supplier=Electro+Sonic; ComponentLink7Description: http://datasheet.octopart.com/5047541500-Molex-datasheet-148170207.pdf?src-supplier=Electro+Sonic; ComponentLink8URL: https://datasheet.octopart.com/504754-1500-Molex-datasheet-154754161.pdf?src-supplier=Master+Electronics; ComponentLink8Description: https://datasheet.octopart.com/504754-1500-Molex-datasheet-154754161.pdf?src-supplier=Master+Electronics; ComponentLink9URL: http://datasheet.octopart.com/5047541500-Molex-datasheet-148170207.pdf?src-supplier=Heilind+Electronics; ComponentLink9Description: http://datasheet.octopart.com/5047541500-Molex-datasheet-148170207.pdf?src-supplier=Heilind+Electronics; Supplier 1: Mouser; Supplier Part Number 1: 538-504754-1500; Supplier 2: Digikey; Supplier Part Number 2: 900-5047541500CT-ND
footprint 5047541500
pins: 1, 2, 3, 4, 5, 6, 7, 8, 9, 10, 11, 12, 13, 14, 15

## 5052780633
designator P?
0.50mm Pitch Easy-On FFC/FPC Connector, 1.90mm Height, Single Bottom Contact (FS19), Right-Angle, Surface Mount, ZIF,...; Manufacturer: Molex; Supplier: Mouser; Supplier Part Number: 538-505278-0633; Manufacturer Part Number: 5052780633; RoHS: Yes; Category: FFC / FPC; Stock: 9707; Pricing: 1=0,52, 10=0,442, 50=0,442, 100=0,343, 1000=0,27, 10000=0,217 (USD); ComponentLink1URL: https://www.molex.com/pdm_docs/sd/5052780633_sd.pdf?src-supplier=Digi-Key; ComponentLink1Description: https://www.molex.com/pdm_docs/sd/5052780633_sd.pdf?src-supplier=Digi-Key; ComponentLink2URL: http://www.molex.com/pdm_docs/sd/5052780633_sd.pdf?src-supplier=Digi-Key; ComponentLink2Description: http://www.molex.com/pdm_docs/sd/5052780633_sd.pdf?src-supplier=Digi-Key; Supplier 1: Mouser; Supplier Part Number 1: 538-505278-0633
footprint 5052780633
pins: 1, 2, 3, 4, 5, 6